# EAGLE library part RN4871-I_RM130 (library RN4871-I_RM130)
Bluetooth BLE Module, Shielded, Antenna, Source: Datasheet <http://ww1.microchip.com/downloads/en/DeviceDoc/50002489C.pdf>
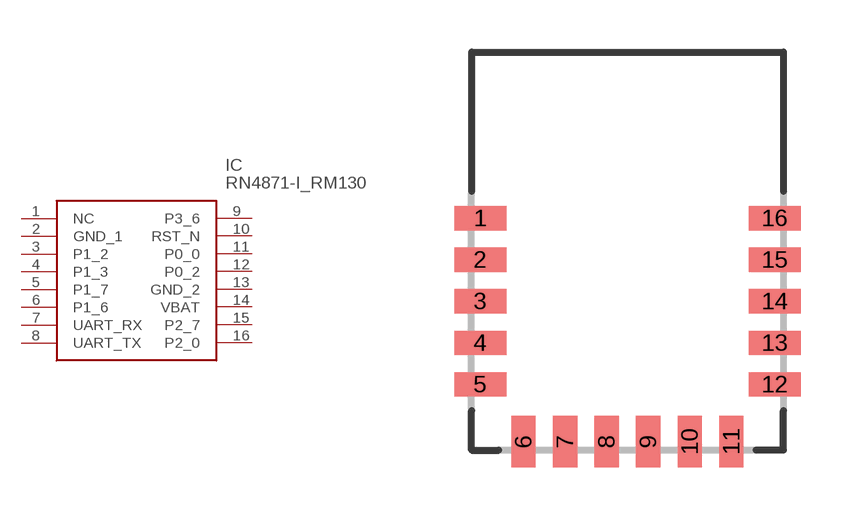
[diagram p0: symbol with the pads of RN4871; footprint RN4871]

Designator prefix IC

## RN4871-I_RM130 (Description: Bluetooth BLE Module, Shielded, Antenna,; Height: mm; Manufacturer_Name: Microchip; Manufacturer_Part_Number: RN4871-I/RM130; Mouser_Part_Number: 579-RN4871IRM130; Mouser_Price-Stock: https://www.mouser.co.uk/ProductDetail/Microchip-Technology/RN4871-I-RM130?qs=MLItCLRbWswoZsrzvVbGYw%3D%3D)  [RN4871]
1  NC  nc
2  GND_1
3  P1_2
4  P1_3
5  P1_7
6  P1_6
7  UART_RX
8  UART_TX
9  P3_6
10  RST_N
11  P0_0
12  P0_2
13  GND_2
14  VBAT
15  P2_7
16  P2_0

## Footprint RN4871 (pad centres in mm)
RN4871
smd 1.5 x 0.7: 1 -4.25,6.7; 2 -4.25,5.5; 3 -4.25,4.3; 4 -4.25,3.1; 5 -4.25,1.9; 12 4.25,1.9; 13 4.25,3.1; 14 4.25,4.3; 15 4.25,5.5; 16 4.25,6.7
smd 0.7 x 1.5: 6 -3,0.25; 7 -1.8,0.25; 8 -0.6,0.25; 9 0.6,0.25; 10 1.8,0.25; 11 3,0.25